# Altium schematic symbol library K10_64LQFP_50MHZ.SchLib: 1 symbol
Pins are listed as number, name and electrical type; pins without a type are passive.

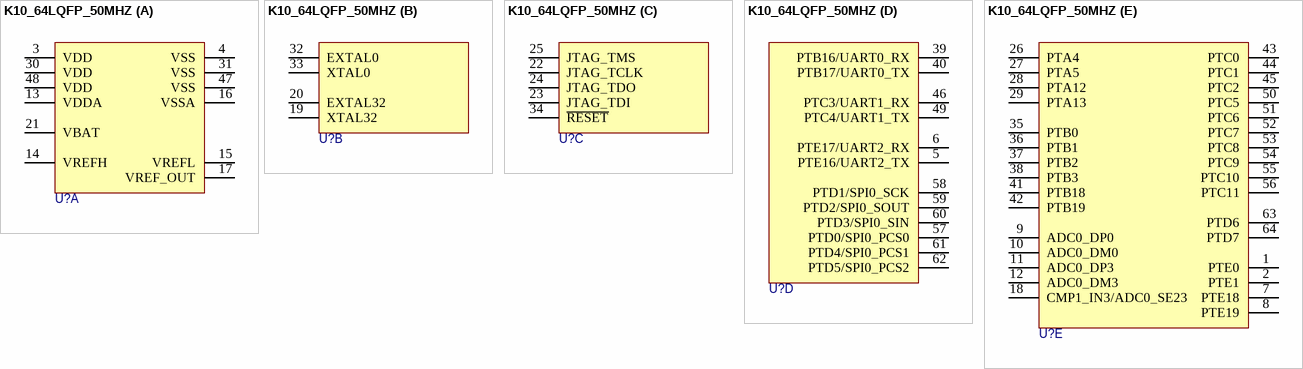
[diagram p0: symbol K10_64LQFP_50MHZ]

## K10_64LQFP_50MHZ
designator U?
part A pins: 3 VDD, 4 VSS, 13 VDDA, 14 VREFH, 15 VREFL, 16 VSSA, 17 VREF_OUT, 21 VBAT, 30 VDD, 31 VSS, 47 VSS, 48 VDD
part B pins: 19 XTAL32, 20 EXTAL32, 32 EXTAL0, 33 XTAL0
part C pins: 22 JTAG_TCLK, 23 JTAG_TDI, 24 JTAG_TDO, 25 JTAG_TMS, 34 ~{RESET}
part D pins: 5 PTE16/UART2_TX, 6 PTE17/UART2_RX, 39 PTB16/UART0_RX, 40 PTB17/UART0_TX, 46 PTC3/UART1_RX, 49 PTC4/UART1_TX, 57 PTD0/SPI0_PCS0, 58 PTD1/SPI0_SCK, 59 PTD2/SPI0_SOUT, 60 PTD3/SPI0_SIN, 61 PTD4/SPI0_PCS1, 62 PTD5/SPI0_PCS2
part E pins: 1 PTE0, 2 PTE1, 7 PTE18, 8 PTE19, 9 ADC0_DP0, 10 ADC0_DM0, 11 ADC0_DP3, 12 ADC0_DM3, 18 CMP1_IN3/ADC0_SE23, 26 PTA4, 27 PTA5, 28 PTA12, 29 PTA13, 35 PTB0, 36 PTB1, 37 PTB2, 38 PTB3, 41 PTB18, 42 PTB19, 43 PTC0, 44 PTC1, 45 PTC2, 50 PTC5, 51 PTC6, 52 PTC7, 53 PTC8, 54 PTC9, 55 PTC10, 56 PTC11, 63 PTD6, 64 PTD7